# Altium footprint library LED_RED.PcbLib: 5 footprints
Each footprint in its own frame and in the unit in brackets; x right, y up, seen from the top. Pads: shape width x height; smd on the part's side, far side on the other; paste and mask are expansions set on the pad; w line width, h text height; cw(c..) or ccw(c..) is an arc to the next point about the centre after c.
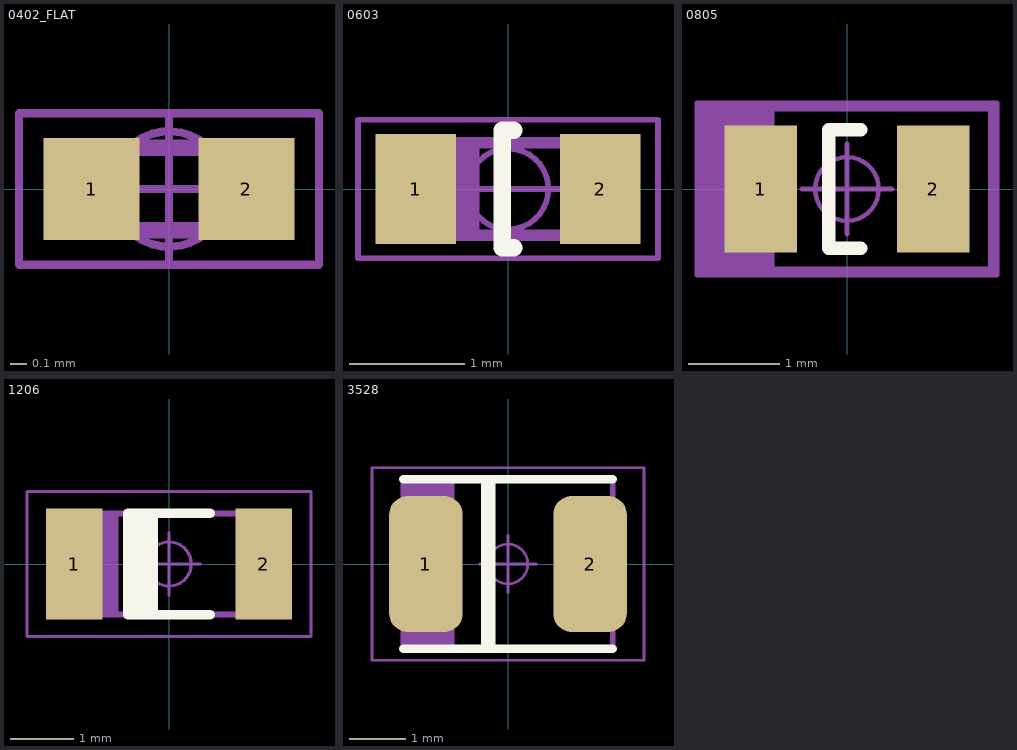
[diagram p0: the footprints below, top view; thin cyan lines are the x and y axes]

## 0402_FLAT [mm] "Chip Resistor, EIA 0402, Metric 1005, Body 1.0x0.5mm, IPC Medium Density"
height 0.4
pads (2):
  rect 0.58x0.62 smd: 1(-0.47,0) 2(0.47,0)
Mechanical 14:
  region: -0.5,0.25 -0.5,-0.25 -0.2,-0.25 -0.2,0.25
  lines w0.1: -0.5,-0.25 -0.5,0.25 0.5,0.25 0.5,-0.25 -0.5,-0.25
  text ".Designator" at -0.1,-0.1 h0.2
Mechanical 15:
  circle w0.05: c0,0 r0.35
  lines w0.05: -0.5,0 0.5,0 ; 0,-0.46 0,0.46 ; -0.91,-0.46 -0.91,0.46 0.91,0.46 0.91,-0.46 -0.91,-0.46
3D body: height 0.25, standoff 0.09, extent -0.5,-0.25 0.5,0.25
3D body: height 0.09, standoff 0, extent -0.5,-0.25 0.5,0.25

## 0603 [mm] "Chip RED LED, 2-Leads, Body 1.6x0.8mm, IPC Medium Density"
height 0.8
pads (2):
  rect 0.7x0.95 smd: 1(-0.8,0) 2(0.8,0)
Top Overlay:
  lines w0.15: 0.05,-0.508 -0.05,-0.508 -0.05,0.508 0.05,0.508
Mechanical 14:
  region: -0.8,0.4 -0.8,-0.4 -0.25,-0.4 -0.25,0.4
  lines w0.1: -0.8,-0.4 0.8,-0.4 0.8,0.4 -0.8,0.4 -0.8,-0.4
  text ".Designator" at -0.1,-0.2 h0.4
Mechanical 15:
  circle w0.05: c0,0 r0.35
  lines w0.05: -0.5,0 0.5,0 ; 0,-0.5 0,0.5 ; -1.3,-0.6 1.3,-0.6 1.3,0.6 -1.3,0.6 -1.3,-0.6
3D body "LEDC1608X80N_RED.stp": height 0.8, standoff 0, extent -0.8,-0.4 0.8,0.4

## 0805 [mm] "Super Red Chip LED, 2-Leads, Body 2.0x1.25mm, IPC Medium Density"
height 0.9
pads (2):
  rect 0.8x1.4 smd: 1(-0.95,0) 2(0.95,0)
Top Overlay:
  lines w0.15: 0.15,-0.65 -0.2,-0.65 -0.2,0.65 0.15,0.65
Mechanical 14:
  region: -1.6,0.9 -1.6,-0.9 -0.8,-0.9 -0.8,0.9
  lines w0.1: -1.6,-0.9 1.6,-0.9 1.6,0.9 -1.6,0.9 -1.6,-0.9
  text ".Designator" at -0.6,-0.25 h0.5
Mechanical 15:
  circle w0.05: c0,0 r0.35
  lines w0.05: -0.5,0 0.5,0 ; 0,-0.5 0,0.5 ; -1.65,-0.95 1.65,-0.95 1.65,0.95 -1.65,0.95 -1.65,-0.95
3D body "LED_OSRAM_LSR976.stp": height 0.9, standoff 0, extent -1.05,-0.675 1.05,0.675

## 1206 [mm] "Red Chip LED, 2-Leads, Body 3.2 x1.6mm, IPC Medium Density"
height 1.2
pads (2):
  rect 0.9x1.75 smd: 1(-1.5,0) 2(1.5,0)
Top Overlay:
  lines w0.15: -0.55,-0.8 -0.55,0.8 ; -0.45,-0.8 -0.45,0.8 ; -0.35,-0.8 -0.35,0.8 ; -0.25,-0.8 -0.25,0.8 ; 0.65,-0.8 -0.65,-0.8 -0.65,0.8 0.65,0.8
Mechanical 14:
  region: -1.6,-0.8 -1.6,0.8 -0.8,0.8 -0.8,-0.8
  lines w0.1: -1.6,-0.8 -1.6,0.8 1.6,0.8 1.6,-0.8 -1.6,-0.8
  text ".Designator" at -0.3,-0.25 h0.5
Mechanical 15:
  circle w0.05: c0,0 r0.35
  lines w0.05: -0.5,0 0.5,0 ; 0,-0.5 0,0.5 ; -2.25,-1.15 2.25,-1.15 2.25,1.15 -2.25,1.15 -2.25,-1.15
3D body "LED_AVAGO_HSMC-C150.stp": height 1.2, standoff 0, extent -1.65,-0.85 1.65,0.85

## 3528 [mm] "Molded SMD RED LED, 2-Leads, Body 3.5x2.8mm, IPC Medium Density"
height 2.1
pads (2):
  rrect50% 1.3x2.4 smd: 1(-1.45,0) 2(1.45,0)
Top Overlay:
  lines w0.15: -1.85,-1.5 1.85,-1.5 ; -1.85,1.5 1.85,1.5 ; -0.4,-1.5 -0.4,1.5 ; -0.3,-1.5 -0.3,1.5
Mechanical 14:
  region: -1.85,1.5 -1.85,-1.5 -0.95,-1.5 -0.95,1.5
  lines w0.1: -1.85,-1.5 -1.85,1.5 1.85,1.5 1.85,-1.5 -1.85,-1.5
  text ".Designator" at -0.8,-0.25 h0.5
Mechanical 15:
  circle w0.05: c0,0 r0.35
  lines w0.05: -0.5,0 0.5,0 ; 0,-0.5 0,0.5 ; -2.4,-1.7 2.4,-1.7 2.4,1.7 -2.4,1.7 -2.4,-1.7
3D body "LEDM3528X210N_RED.stp": height 2.1, standoff 0, extent -1.85,-1.5 1.85,1.5